# Altium footprint library caravan_pcb_lib.PcbLib: 24 footprints (part 1 of 2)
Each footprint in its own frame and in the unit in brackets; x right, y up, seen from the top. Pads: shape width x height; smd on the part's side, far side on the other; paste and mask are expansions set on the pad; w line width, h text height; cw(c..) or ccw(c..) is an arc to the next point about the centre after c.
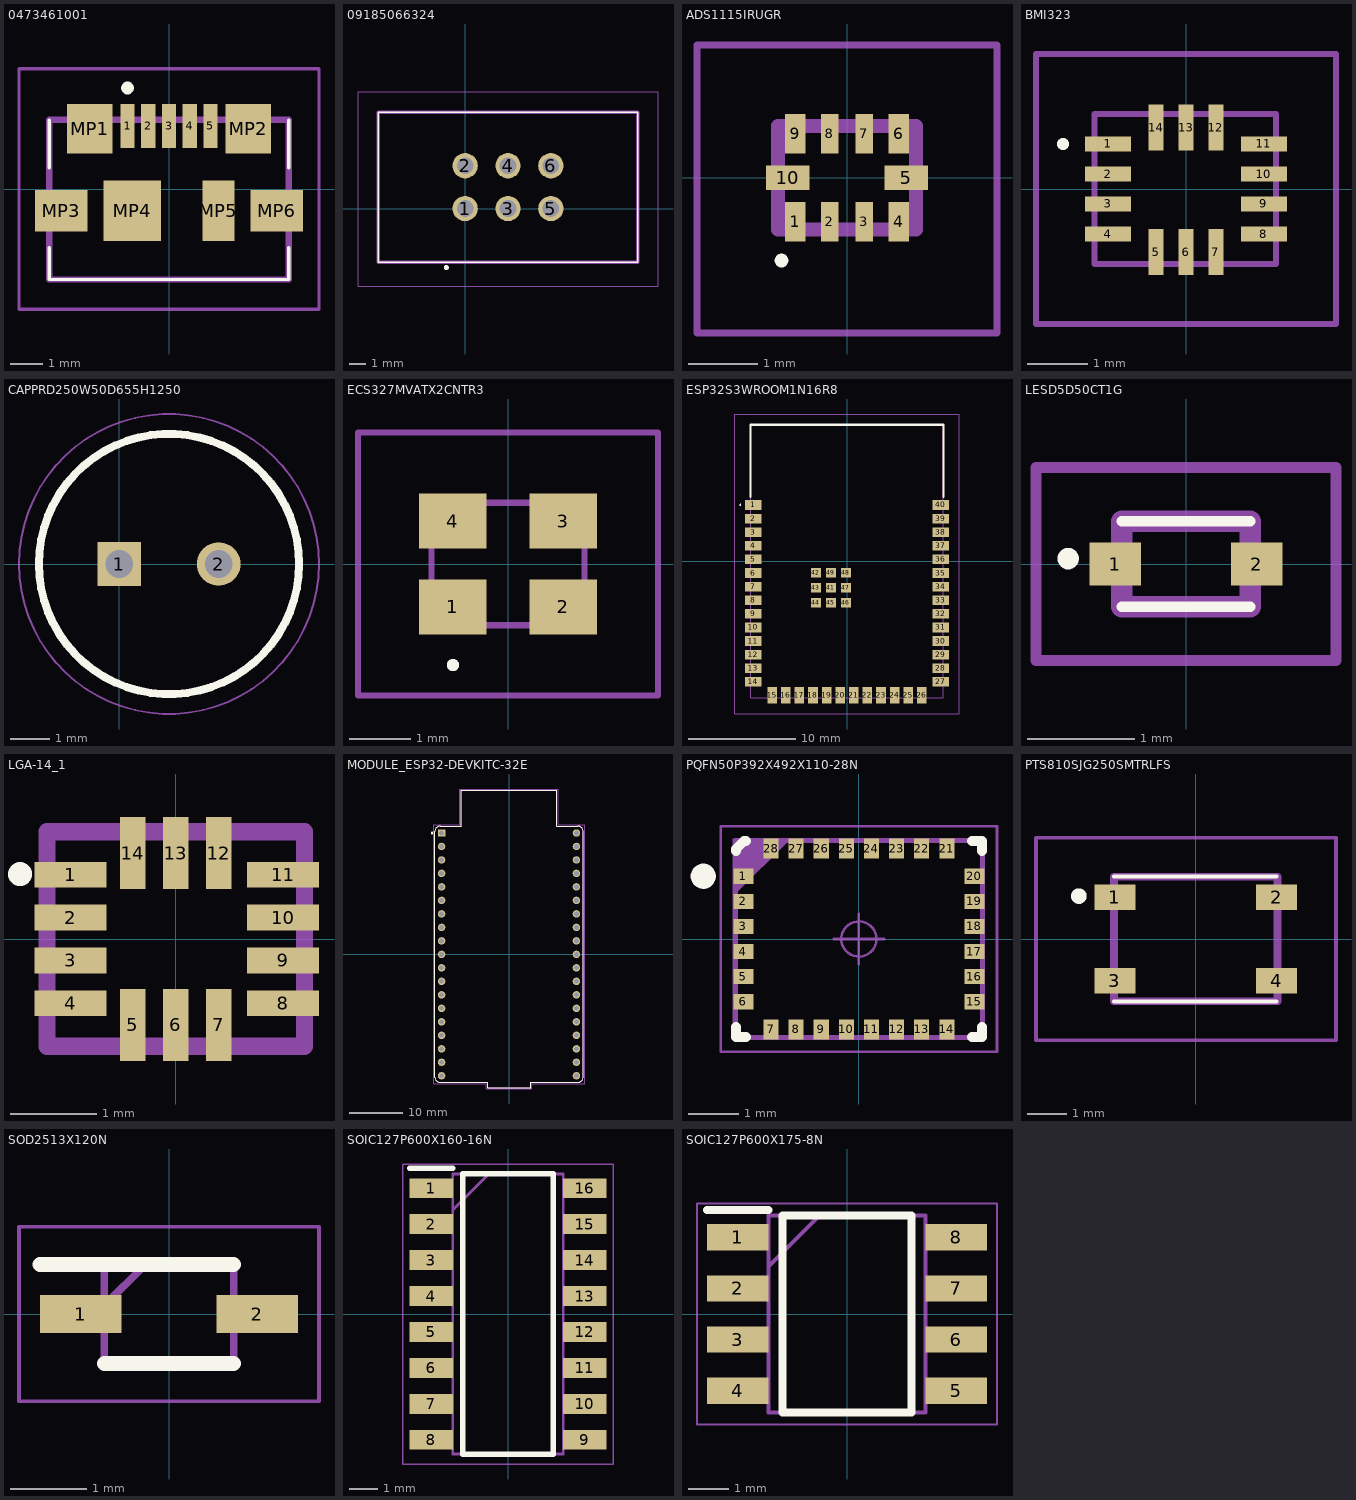
[diagram p0: the footprints below, top view; thin cyan lines are the x and y axes]

## 0473461001 [mm]
pads (11):
  rect 0.45x1.38 smd: 1(-1.3,1.975) 2(-0.65,1.975) 3(0,1.975) 4(0.65,1.975) 5(1.3,1.975)
  rect 1.425x1.55 smd: MP1(-2.487,1.89) MP2(2.487,1.89)
  rect 1.65x1.3 smd: MP3(-3.375,-0.685) MP6(3.375,-0.685)
  rect 1.8x1.9 smd: MP4(-1.15,-0.685)
  rect 1x1.9 smd: MP5(1.55,-0.685)
Top Overlay:
  lines w0.1: -3.75,-1.835 -3.75,-2.835 3.75,-2.835 3.75,-1.835 ; -3.75,0.665 -3.75,2.165 ; 3.75,0.665 3.75,2.165
  lines w0.2: -1.4,3.165 ccw(c-1.3,3.165) -1.2,3.165 ccw(c-1.3,3.165) -1.4,3.165
Mechanical 13:
  lines w0.2: -3.75,-2.835 3.75,-2.835 3.75,2.165 -3.75,2.165 -3.75,-2.835
Mechanical 15:
  lines w0.1: -4.7,-3.765 4.7,-3.765 4.7,3.765 -4.7,3.765 -4.7,-3.765
3D body "0473461001.stp": height 2.72, standoff 0.01, extent -3.9,-2.5 3.9,2.5

## 09185066324 [mm]
pads (6):
  round 1.5 hole 1: 1(0,0) 2(0,2.54) 3(2.54,0) 4(2.54,2.54) 5(5.08,0) 6(5.08,2.54)
Top Overlay:
  circle w0.2: c-1.12,-3.5 r0.05
  lines w0.1: -5.16,-3.18 -5.16,5.72 10.24,5.72 10.24,-3.18 -5.16,-3.18
Mechanical 13:
  lines w0.2: -5.16,-3.18 -5.16,5.72 10.24,5.72 10.24,-3.18 -5.16,-3.18
Mechanical 15:
  lines w0.05: -6.36,-4.6 -6.36,6.92 11.44,6.92 11.44,-4.6 -6.36,-4.6
3D body "09185066324.stp": height 9.31, standoff -3.04, extent -5.16,-3.21 10.24,5.99

## ADS1115IRUGR [mm]
pads (10):
  rect 0.3x0.575 smd: 1(-0.75,-0.638) 4(0.75,-0.638) 6(0.75,0.638) 9(-0.75,0.638)
  rect 0.25x0.575 smd: 2(-0.25,-0.638) 3(0.25,-0.638) 7(0.25,0.638) 8(-0.25,0.638)
  rect 0.63x0.35 smd: 5(0.86,0) 10(-0.86,0)
Top Overlay:
  lines w0.1: -1,-1.2 ccw(c-0.95,-1.2) -0.9,-1.2 ccw(c-0.95,-1.2) -1,-1.2
Mechanical 13:
  lines w0.2: -1,-0.75 1,-0.75 1,0.75 -1,0.75 -1,-0.75
Mechanical 15:
  lines w0.1: -2.175,-2.25 2.175,-2.25 2.175,1.925 -2.175,1.925 -2.175,-2.25
3D body "ADS1115IRUGR.stp": height 0.4, standoff 0, extent -1,-0.75 1,0.75

## BMI323 [mm]
pads (14):
  rect 0.762x0.25 smd: 1(-1.3,0.75) 2(-1.3,0.25) 3(-1.3,-0.25) 4(-1.3,-0.75) 8(1.3,-0.75) 9(1.3,-0.25) 10(1.3,0.25) 11(1.3,0.75)
  rect 0.25x0.762 smd: 5(-0.5,-1.05) 6(0,-1.05) 7(0.5,-1.05) 12(0.5,1.025) 13(0,1.025) 14(-0.5,1.025)
Top Overlay:
  lines w0.1: -2.1,0.75 cw(c-2.05,0.75) -2,0.75 cw(c-2.05,0.75) -2.1,0.75
Mechanical 13:
  lines w0.1: -1.524,-1.25 -1.524,1.25 1.5,1.25 1.5,-1.25 -1.524,-1.25
Mechanical 15:
  lines w0.1: -2.5,-2.25 -2.5,2.25 2.5,2.25 2.5,-2.25 -2.5,-2.25
3D body "BMI323.stp": height 0.84, standoff 0, extent -1.5,-1.25 1.5,1.25

## CAPPRD250W50D655H1250 [mm]
pads (2):
  rect 1.1x1.1 hole 0.7: 1(0,0)
  round 1.1 hole 0.7: 2(2.5,0)
Top Overlay:
  circle w0.2: c1.25,0 r3.275
Mechanical 13:
  circle w0.1: c1.25,0 r3.275
Mechanical 15:
  circle w0.05: c1.25,0 r3.775
3D body "UVY1V101MED1TD.stp": height 12.5, standoff -10, extent -2.15,-3.4 4.65,3.4

## ECS327MVATX2CNTR3 [mm]
pads (4):
  rect 1.1x0.9 smd: 1(-0.9,-0.7) 2(0.9,-0.7) 3(0.9,0.7) 4(-0.9,0.7)
Top Overlay:
  lines w0.1: -0.9,-1.7 cw(c-0.9,-1.65) -0.9,-1.6 cw(c-0.9,-1.65) -0.9,-1.7
Mechanical 13:
  lines w0.1: -1.25,-1 -1.25,1 1.25,1 1.25,-1 -1.25,-1
Mechanical 15:
  lines w0.1: -2.45,-2.15 -2.45,2.15 2.45,2.15 2.45,-2.15 -2.45,-2.15
3D body "ECS-327MVATX-2-CN-TR3.stp": height 1.1, standoff 0, extent -1.36,-1.06 1.36,1.06

## ESP32S3WROOM1N16R8 [mm]
pads (49):
  rect 1.5x0.9 smd: 1(-8.75,5.26) 2(-8.75,3.99) 3(-8.75,2.72) 4(-8.75,1.45) 5(-8.75,0.18) 6(-8.75,-1.09) 7(-8.75,-2.36) 8(-8.75,-3.63) 9(-8.75,-4.9) 10(-8.75,-6.17) 11(-8.75,-7.44) 12(-8.75,-8.71) 13(-8.75,-9.98) 14(-8.75,-11.25) 27(8.75,-11.25) 28(8.75,-9.98) 29(8.75,-8.71) 30(8.75,-7.44) 31(8.75,-6.17) 32(8.75,-4.9) 33(8.75,-3.63) 34(8.75,-2.36) 35(8.75,-1.09) 36(8.75,0.18) 37(8.75,1.45) 38(8.75,2.72) 39(8.75,3.99) 40(8.75,5.26)
  rect 0.9x1.5 smd: 15(-6.985,-12.5) 16(-5.715,-12.5) 17(-4.445,-12.5) 18(-3.175,-12.5) 19(-1.905,-12.5) 20(-0.635,-12.5) 21(0.635,-12.5) 22(1.905,-12.5) 23(3.175,-12.5) 24(4.445,-12.5) 25(5.715,-12.5) 26(6.985,-12.5)
  rect 0.9x0.9 smd: 41(-1.5,-2.46) 42(-2.9,-1.06) 43(-2.9,-2.46) 44(-2.9,-3.86) 45(-1.5,-3.86) 46(-0.1,-3.86) 47(-0.1,-2.46) 48(-0.1,-1.06) 49(-1.5,-1.06)
Top Overlay:
  lines w0.1: -10,5.26 cw(c-9.95,5.26) -9.9,5.26 cw(c-9.95,5.26) -10,5.26
  lines w0.2: -9,6 -9,12.75 9,12.75 9,6
Mechanical 13:
  lines w0.1: -9,-12.75 9,-12.75 9,12.75 -9,12.75 -9,-12.75
Mechanical 15:
  lines w0.1: -10.5,-14.25 10.5,-14.25 10.5,13.75 -10.5,13.75 -10.5,-14.25
3D body "ESP32-S3-WROOM-1-N16R8.stp": height 3.25, standoff 0, extent -9,-12.623 9,12.877

## LESD5D50CT1G [mm]
pads (2):
  rect 0.48x0.4 smd: 1(-0.66,0) 2(0.66,0)
Top Overlay:
  lines w0.1: -0.6,-0.4 0.6,-0.4 ; -0.6,0.4 0.6,0.4 ; -1.1,0 cw(c-1.1,0.05) -1.1,0.1 cw(c-1.1,0.05) -1.1,0
Mechanical 13:
  lines w0.2: -0.6,-0.4 0.6,-0.4 0.6,0.4 -0.6,0.4 -0.6,-0.4
Mechanical 15:
  lines w0.1: -1.4,-0.9 1.4,-0.9 1.4,0.9 -1.4,0.9 -1.4,-0.9
3D body "LESD5D5.0CT1G.stp": height 0.6, standoff 0, extent -0.8,-0.399 0.8,0.399

## LGA-14_1 [mm]
pads (14):
  rect 0.838x0.3 smd: 1(-1.225,0.75) 2(-1.225,0.25) 3(-1.225,-0.25) 4(-1.225,-0.75) 8(1.25,-0.75) 9(1.25,-0.25) 10(1.25,0.25) 11(1.25,0.75)
  rect 0.3x0.838 smd: 5(-0.5,-1) 6(0,-1) 7(0.5,-1) 12(0.5,1) 13(0,1) 14(-0.5,1)
Top Overlay:
  circle w0.254: c-1.815,0.756 r0.012
Mechanical 13:
  lines w0.2: -1.5,-1.25 1.5,-1.25 1.5,1.25 -1.5,1.25 -1.5,-1.25
3D body "LSM6DSOXTR.stp": height 0.86, standoff 0, extent -1.62,-1.25 1.38,1.25

## MODULE_ESP32-DEVKITC-32E [mm]
pads (38):
  rect 1.408x1.408 / inner round 1.408 / far side rect 1.408x1.408 hole 0.9: J2_1(-12.7,22.835)
  round 1.408 hole 0.9: J2_2(-12.7,20.295) J2_3(-12.7,17.755) J2_4(-12.7,15.215) J2_5(-12.7,12.675) J2_6(-12.7,10.135) J2_7(-12.7,7.595) J2_8(-12.7,5.055) J2_9(-12.7,2.515) J2_10(-12.7,-0.025) J2_11(-12.7,-2.565) J2_12(-12.7,-5.105) J2_13(-12.7,-7.645) J2_14(-12.7,-10.185) J2_15(-12.7,-12.725) J2_16(-12.7,-15.265) J2_17(-12.7,-17.805) J2_18(-12.7,-20.345) J2_19(-12.7,-22.885) J3_1(12.7,22.835) J3_2(12.7,20.295) J3_3(12.7,17.755) J3_4(12.7,15.215) J3_5(12.7,12.675) J3_6(12.7,10.135) J3_7(12.7,7.595) J3_8(12.7,5.055) J3_9(12.7,2.515) J3_10(12.7,-0.025) J3_11(12.7,-2.565) J3_12(12.7,-5.105) J3_13(12.7,-7.645) J3_14(12.7,-10.185) J3_15(12.7,-12.725) J3_16(12.7,-15.265) J3_17(12.7,-17.805) J3_18(12.7,-20.345) J3_19(12.7,-22.885)
Top Overlay:
  circle w0.2: c-14.5,22.835 r0.1
  lines w0.127: -13.97,-23.13 ccw(c-12.97,-23.13) -12.97,-24.13 -4.05,-24.13 -4.05,-25.13 4.05,-25.13 4.05,-24.13 12.97,-24.13 ccw(c12.97,-23.13) 13.97,-23.13 13.97,23.13 ccw(c12.97,23.13) 12.97,24.13 9,24.13 9,30.87 -9,30.87 -9,24.13 -12.97,24.13 ccw(c-12.97,23.13) -13.97,23.13 -13.97,-23.13
Mechanical 13:
  circle w0.2: c-14.5,22.835 r0.1
  lines w0.127: -13.97,-23.13 ccw(c-12.97,-23.13) -12.97,-24.13 -4.05,-24.13 -4.05,-25.13 4.05,-25.13 4.05,-24.13 12.97,-24.13 ccw(c12.97,-23.13) 13.97,-23.13 13.97,23.13 ccw(c12.97,23.13) 12.97,24.13 9,24.13 9,30.87 -9,30.87 -9,24.13 -12.97,24.13 ccw(c-12.97,23.13) -13.97,23.13 -13.97,-23.13
Mechanical 15:
  lines w0.05: -14.22,-24.38 -14.22,24.38 -9.25,24.38 -9.25,31.12 9.25,31.12 9.25,24.38 14.22,24.38 14.22,-24.38 4.3,-24.38 4.3,-25.38 -4.3,-25.38 -4.3,-24.38 -14.22,-24.38

## PCBComponent_1 [mm]

## PQFN50P392X492X110-28N [mm]
pads (28):
  rect 0.4x0.3 smd: 1(-2.3,1.25) 2(-2.3,0.75) 3(-2.3,0.25) 4(-2.3,-0.25) 5(-2.3,-0.75) 6(-2.3,-1.25) 15(2.3,-1.25) 16(2.3,-0.75) 17(2.3,-0.25) 18(2.3,0.25) 19(2.3,0.75) 20(2.3,1.25)
  rect 0.3x0.4 smd: 7(-1.75,-1.8) 8(-1.25,-1.8) 9(-0.75,-1.8) 10(-0.25,-1.8) 11(0.25,-1.8) 12(0.75,-1.8) 13(1.25,-1.8) 14(1.75,-1.8) 21(1.75,1.8) 22(1.25,1.8) 23(0.75,1.8) 24(0.25,1.8) 25(-0.25,1.8) 26(-0.75,1.8) 27(-1.25,1.8) 28(-1.75,1.8)
Top Overlay:
  circle w0.25: c-3.1,1.25 r0.125
  lines w0.2: -2.45,-1.75 -2.45,-1.95 -2.25,-1.95 ; -2.45,1.75 -2.45,1.79 -2.29,1.95 -2.25,1.95 ; 2.25,-1.95 2.45,-1.95 2.45,-1.75 ; 2.25,1.95 2.45,1.95 2.45,1.75
Mechanical 13:
  lines w0.1: -2.462,0.962 -1.462,1.962 ; -2.462,1.062 -1.562,1.962 ; -2.463,1.162 -1.662,1.962 ; -2.462,1.262 -1.762,1.962 ; -2.462,1.362 -1.862,1.962 ; -2.462,1.462 -1.962,1.962 ; -2.462,1.562 -2.062,1.962 ; -2.462,1.662 -2.162,1.962 ; -2.463,1.762 -2.262,1.962 ; -2.462,1.862 -2.362,1.962 ; -2.462,-1.962 2.462,-1.962 2.462,1.962 -2.462,1.962 -2.462,-1.962
Mechanical 15:
  circle w0.05: c0,0 r0.35
  lines w0.001: -2.5,-2 2.5,-2 2.5,2 -2.5,2 -2.5,-2
  lines w0.05: -0.5,0 0.5,0 ; 0,-0.5 0,0.5 ; -2.75,-2.25 2.75,-2.25 2.75,2.25 -2.75,2.25 -2.75,-2.25

## PTS810SJG250SMTRLFS [mm]
pads (4):
  rect 1.05x0.65 smd: 1(-2.075,1.075) 2(2.075,1.075) 3(-2.075,-1.075) 4(2.075,-1.075)
Top Overlay:
  lines w0.1: -2.1,-1.6 2.075,-1.6 ; -2.1,1.6 2.075,1.6
  lines w0.2: -3,1 ccw(c-3,1.1) -3,1.2 ccw(c-3,1.1) -3,1
Mechanical 13:
  lines w0.1: -4.1,-2.6 3.6,-2.6 3.6,2.6 -4.1,2.6 -4.1,-2.6
  lines w0.2: -2.1,-1.6 2.1,-1.6 2.1,1.6 -2.1,1.6 -2.1,-1.6

## SOD2513X120N [mm]
pads (2):
  rect 1.075x0.5 smd: 1(-1.162,0) 2(1.162,0)
Top Overlay:
  lines w0.2: -1.7,0.65 0.85,0.65 ; -0.85,-0.65 0.85,-0.65
Mechanical 13:
  lines w0.1: -0.85,0.112 -0.312,0.65 ; -0.85,-0.65 -0.85,0.65 0.85,0.65 0.85,-0.65 -0.85,-0.65
Mechanical 15:
  lines w0.05: -1.975,-1.15 -1.975,1.15 1.975,1.15 1.975,-1.15 -1.975,-1.15
3D body "BAT760-7.stp": height 1.2, standoff 0, extent -1.25,-0.65 1.25,0.65

## SOIC127P600X160-16N [mm]
pads (16):
  rect 1.525x0.7 smd: 1(-2.712,4.445) 2(-2.712,3.175) 3(-2.712,1.905) 4(-2.712,0.635) 5(-2.712,-0.635) 6(-2.712,-1.905) 7(-2.712,-3.175) 8(-2.712,-4.445) 9(2.712,-4.445) 10(2.712,-3.175) 11(2.712,-1.905) 12(2.712,-0.635) 13(2.712,0.635) 14(2.712,1.905) 15(2.712,3.175) 16(2.712,4.445)
Top Overlay:
  lines w0.2: -3.475,5.145 -1.95,5.145 ; -1.6,-4.95 1.6,-4.95 1.6,4.95 -1.6,4.95 -1.6,-4.95
Mechanical 13:
  lines w0.1: -1.95,3.68 -0.68,4.95 ; -1.95,-4.95 1.95,-4.95 1.95,4.95 -1.95,4.95 -1.95,-4.95
Mechanical 15:
  lines w0.05: -3.725,-5.3 3.725,-5.3 3.725,5.3 -3.725,5.3 -3.725,-5.3
3D body "HX711.stp": height 2.05, standoff 0, extent -3.059,-4.944 3.059,4.944

## SOIC127P600X175-8N [mm]
pads (8):
  rect 1.525x0.65 smd: 1(-2.712,1.905) 2(-2.712,0.635) 3(-2.712,-0.635) 4(-2.712,-1.905) 5(2.712,-1.905) 6(2.712,-0.635) 7(2.712,0.635) 8(2.712,1.905)
Top Overlay:
  lines w0.2: -3.475,2.58 -1.95,2.58 ; -1.6,-2.45 1.6,-2.45 1.6,2.45 -1.6,2.45 -1.6,-2.45
Mechanical 13:
  lines w0.1: -1.95,1.18 -0.68,2.45 ; -1.95,-2.45 1.95,-2.45 1.95,2.45 -1.95,2.45 -1.95,-2.45
Mechanical 15:
  lines w0.05: -3.725,-2.75 3.725,-2.75 3.725,2.75 -3.725,2.75 -3.725,-2.75
3D body "NE555DR.stp": height 1.75, standoff 0, extent -3,-2.45 3,2.45